# Altium schematic symbol library 01550900DR.SchLib: 1 symbol
Pins are listed as number, name and electrical type; pins without a type are passive.

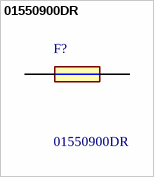
[diagram p0: symbol 01550900DR]

## 01550900DR
designator F?
Fuse Holder ACS NANO FUSEHLDR TAPE & REEL; Manufacturer_Name: LITTELFUSE; Geometry.Height: 3.81mm; Mouser Part Number: 576-01550900DR; Mouser Price/Stock: https://www.mouser.co.uk/ProductDetail/Littelfuse/01550900DR?qs=DRkmTr78QATmF52QRk2Q4g%3D%3D; Manufacturer_Part_Number: 01550900DR; Datasheet Link: https://www.littelfuse.com/media?resourcetype=datasheets&itemid=a9f9b3bc-4d54-4943-931a-8c4669b10f93&filename=littelfuse-fuse-block-1550900-datasheet
footprint 01550900DR
pins: 1, 2